# Altium integrated library PCB_Project2.IntLib: 16 symbols
Pins are listed as number, name and electrical type; pins without a type are passive.

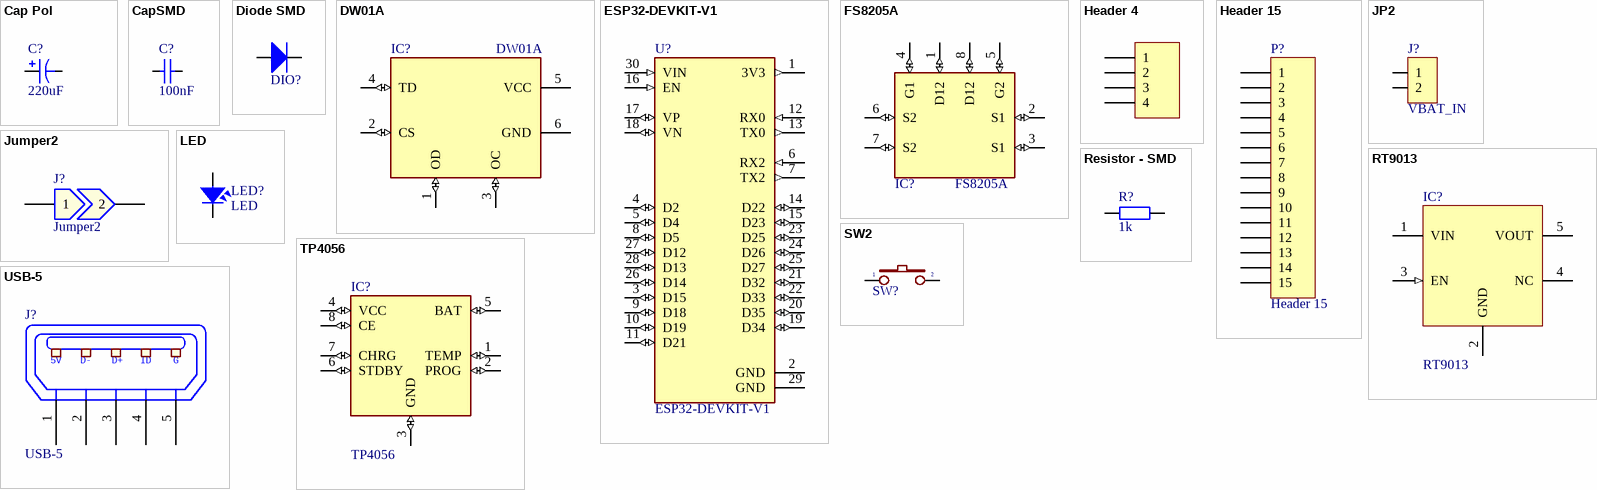
[diagram p0: symbols Cap Pol to USB-5]

## Cap Pol
designator C?, comment 220uF
Polarized Capacitor (Axial); Published: 8-Jun-2000; LatestRevisionDate: 17-Jul-2002; LatestRevisionNote: Re-released for DXP Platform.; PackageReference: POLAR0.8; Publisher: Altium Limited
footprint C3MM
footprint C5mm
footprint C8mm
footprint C10mm
footprint C12mm
footprint CAP_TANTALUM_3216
pins: 1, 2
1 alternate drawing of the same symbol

## CapSMD
designator C?, comment 100nF
Capacitor; Value: 33p; Published: 8-Jun-2000; LatestRevisionDate: 17-Jul-2002; LatestRevisionNote: Re-released for DXP Platform.; PackageReference: RAD-0.3; Publisher: Altium Limited
footprint CAP_0402
footprint CAP_0603
footprint CAP_0805
footprint CAP_1206
footprint CAP_3216
pins: 1, 2

## Diode SMD
designator DIO?  (value not drawn)
Default Diode; Code - JEDEC: DO-214-AB; Value: 1N5007; Published: 8-Jun-2000; Revision: July-2002: Re-released for DXP Platform.; Publisher: Altium Limited
footprint DIO-SMD-106
footprint DIO-SMD-123
footprint DIO-SMD-A
footprint DIO-SMD-B (Magnetic-Core Inductor with Winding Polarity Marking; 2 Leads)
footprint DIO-SMD-216AA (DO216AA ST-MITE)
footprint DIO-SMD-222AA (DO216AA ST-MITE)
footprint DIO-214AC(SMA) (DO-214AC Diode Smallest Size)
pins: 1 A, 2 K

## DW01A
designator IC?
One Cell Lithium-ion/Polymer Battery Protection IC
footprint SOT23-6 (SOT23, 5-Leads, Body 3.0x3.0mm (max), Pitch 0.95mm, IPC Medium Density)
pins: 1 OD (io), 2 CS (io), 3 OC (io), 4 TD (io), 5 VCC (power), 6 GND (power)

## ESP32-DEVKIT-V1
designator U?
Dual core, Wi-Fi: 2.4 GHz up to 150 Mbits/s,BLE (Bluetooth Low Energy) and legacy Bluetooth, 32 bits, Up to 240 MHz; MF: Do it; Price: None; Availability: Not in stock; Package: None; MP: ESP32-DEVKIT-V1; Value: *; SnapEDA_Link: https://www.snapeda.com/parts/ESP32-DEVKIT-V1/Do+it/view-part/?ref=snap; Check_prices: https://www.snapeda.com/parts/ESP32-DEVKIT-V1/Do+it/view-part/?ref=eda
footprint MODULE_ESP32_DEVKIT_V1
pins: 1 3V3 (out), 2 GND (power), 3 D15 (io), 4 D2 (io), 5 D4 (io), 6 RX2 (in), 7 TX2 (out), 8 D5 (io), 9 D18 (io), 10 D19 (io), 11 D21 (io), 12 RX0 (in), 13 TX0 (out), 14 D22 (io), 15 D23 (io), 16 EN (in), 17 VP (io), 18 VN (io), 19 D34 (io), 20 D35 (io), 21 D32 (io), 22 D33 (io), 23 D25 (io), 24 D26 (io), 25 D27 (io), 26 D14 (io), 27 D12 (io), 28 D13 (io), 29 GND (power), 30 VIN (in)

## FS8205A
designator IC?
footprint FS8205A
pins: 1 D12 (io), 2 S1 (io), 3 S1 (io), 4 G1 (io), 5 G2 (io), 6 S2 (io), 7 S2 (io), 8 D12 (io)

## Header 4
designator P?  (value not drawn)
Header, 4-Pin; LatestRevisionDate: 17-Jul-2002; LatestRevisionNote: Re-released for DXP Platform.; Publisher: Altium Limited
footprint HDR1X4 (Connector; Header; 4 Position)
signal-integrity model Connector
pins: 1, 2, 3, 4

## Header 15
designator P?
Header, 15-Pin; LatestRevisionDate: 17-Jul-2002; LatestRevisionNote: Re-released for DXP Platform.; Publisher: Altium Limited
footprint HDR1X15 (Connector; Header; 15 Position)
signal-integrity model Connector
pins: 1, 2, 3, 4, 5, 6, 7, 8, 9, 10, 11, 12, 13, 14, 15

## JP2
designator J?, comment VBAT_IN
WR-PHD 2.54 mm Angled Socket Header; Manufacturer: W¨¹rth Elektronik eiSos GmbH; partNo: 613002143121; ComponentLink1 Description: Manufacturer; ComponentLink2 Description: Datasheet; NoPins: 02; Created Date: 29 March 2013; ComponentLink1URL: http://www.we-online.com; ComponentLink2URL: http://katalog.we-online.de/em/datasheet/6130xx143121.pdf; Created by: Karrer Zheng
footprint JP2-C1T (2 row, straight, gold plating)
footprint JP2-CLOSED
footprint JP2-C1C (02p 1 row Right angle)
footprint JP2-D1C (2 pins, 1 row, right angled, gold plating)
footprint JP2-D1T (2 pins, 1 row, straight, gold plating)
pins: 1, 2

## Jumper2
designator J?
Jumper, 2-Pin
footprint RES-SMD-0201
footprint RES-SMD-0402
footprint JUMPER2
pins: 1, 2

## LED
designator LED?
LED Single colour Green and Red; Value: LED 3 ly Single Colour
footprint LED-3 (LED 2 PIN, 3ly Only colour)
footprint LED-5 GRe (LED 2 PIN, 5 ly , Only colour,pin to pin 100mil)
footprint LED-5TRED (LED 2 PIN, 5 ly , Only colour, pin to pin 110mil)
footprint LED-0805-Blue
footprint LED-0805-Green
footprint LED-0805-Orange
footprint LED-0805-Red
footprint LED-0805-Yellow
footprint LED-1206-Blue (Compoment SMD 120x60mil)
footprint LED-1206-Green
footprint LED-1206-Orange
footprint LED-1206-Red
footprint LED-1206-Yellow
pins: 1, 2

## Resistor - SMD
designator R?, comment 1k
Resistor SMD; Manufacturer: Generic Components; Class: Passive; Published: 08/06/2000; Publisher: Altium Hobart Technology Centre
footprint RES-SMD-0101
footprint RES-SMD-0201
footprint RES-SMD-0603
footprint RES-SMD-0805
footprint RES-SMD-1206
footprint RES-SMD-1210 (Chip Capacitor, Body 3.2x2.5mm, IPC Medium Density)
footprint RES-SMD-1812 (Chip Capacitor, Body 3.2x2.5mm, IPC Medium Density)
footprint RES-SMD-2010 (Chip Capacitor, Body 3.2x2.5mm, IPC Medium Density)
footprint RES-SMD-2512 (Chip Capacitor, Body 3.2x2.5mm, IPC Medium Density)
footprint RES-SMD-0402
pins: 1, 2

## RT9013
designator IC?
https://linhkien.cxt.vn/5435-rt9013-33gb-ic-reg-linear-33v-500ma-sot23-5.html
footprint SOT23-5 (SOT23, 5-Leads, Body 3.0x3.0mm (max), Pitch 0.95mm, IPC Medium Density)
pins: 1 VIN (power), 2 GND (power), 3 EN (in), 4 NC, 5 VOUT (power)

## SW2
designator SW?, comment SW  (value not drawn)
Switch button 2 pin; Value: SW chip 2 pin
footprint SW2 (SW button 2pin, 250x 250 mil)
pins: 1, 2

## TP4056
designator IC?
Complete single cell Li-Ion battery with a constant current / constant voltage linear charger
footprint TP4056
pins: 1 TEMP (io), 2 PROG (io), 3 GND (io), 4 VCC (io), 5 BAT (io), 6 STDBY (io), 7 CHRG (io), 8 CE (io)

## USB-5
designator J?
Manufacturer: FCI; Manufacturer Part Number: 10118193-0001LF; Connector Type: USB - micro B; Number of Contacts: 5; Gender: Receptacle; Specifications: USB 2.0; .Creator: MM; .Checked PCB: RF; Supplier 1: Digi-Key; RoHS: RoHS Compliant; Category: Connectors, Interconnects; Stock 1: 28642; Pricing 1: 1=0.46, 10=0.433, 25=0.3712, 50=0.3156, 100=0.3032, 250=0.27224, 500=0.25988 (USD); Packaging: Cut Tape (CT); Mounting Type: Surface Mount, Right Angle, Horizontal; Features: Shielded, Solder Retention; Ingress Protection: -; ComponentLink1URL: http://portal.fciconnect.com/Comergent//fci/drawing/10118193.pdf; ComponentLink1Description: http://portal.fciconnect.com/Comergent//fci/drawing/10118193.pdf; Supplier Part Number 1: 609-4616-1-ND; .Checked SCH: MM
footprint USB-M1
footprint USB-M2
footprint USB-M3
footprint USB-M4
footprint USB-M5
footprint USB-M6 (MOLEX 51387-0571)
footprint USB-M7
pins: 1 P1, 2 P2, 3 P3, 4 P4, 5 P5
text: 5V; D-; D+; ID; G